# Altium schematic symbol library SCH - MCU - INFINEON XMC - INFINEON XMC4500F144.SchLib: 1 symbol
Pins are listed as number, name and electrical type; pins without a type are passive.

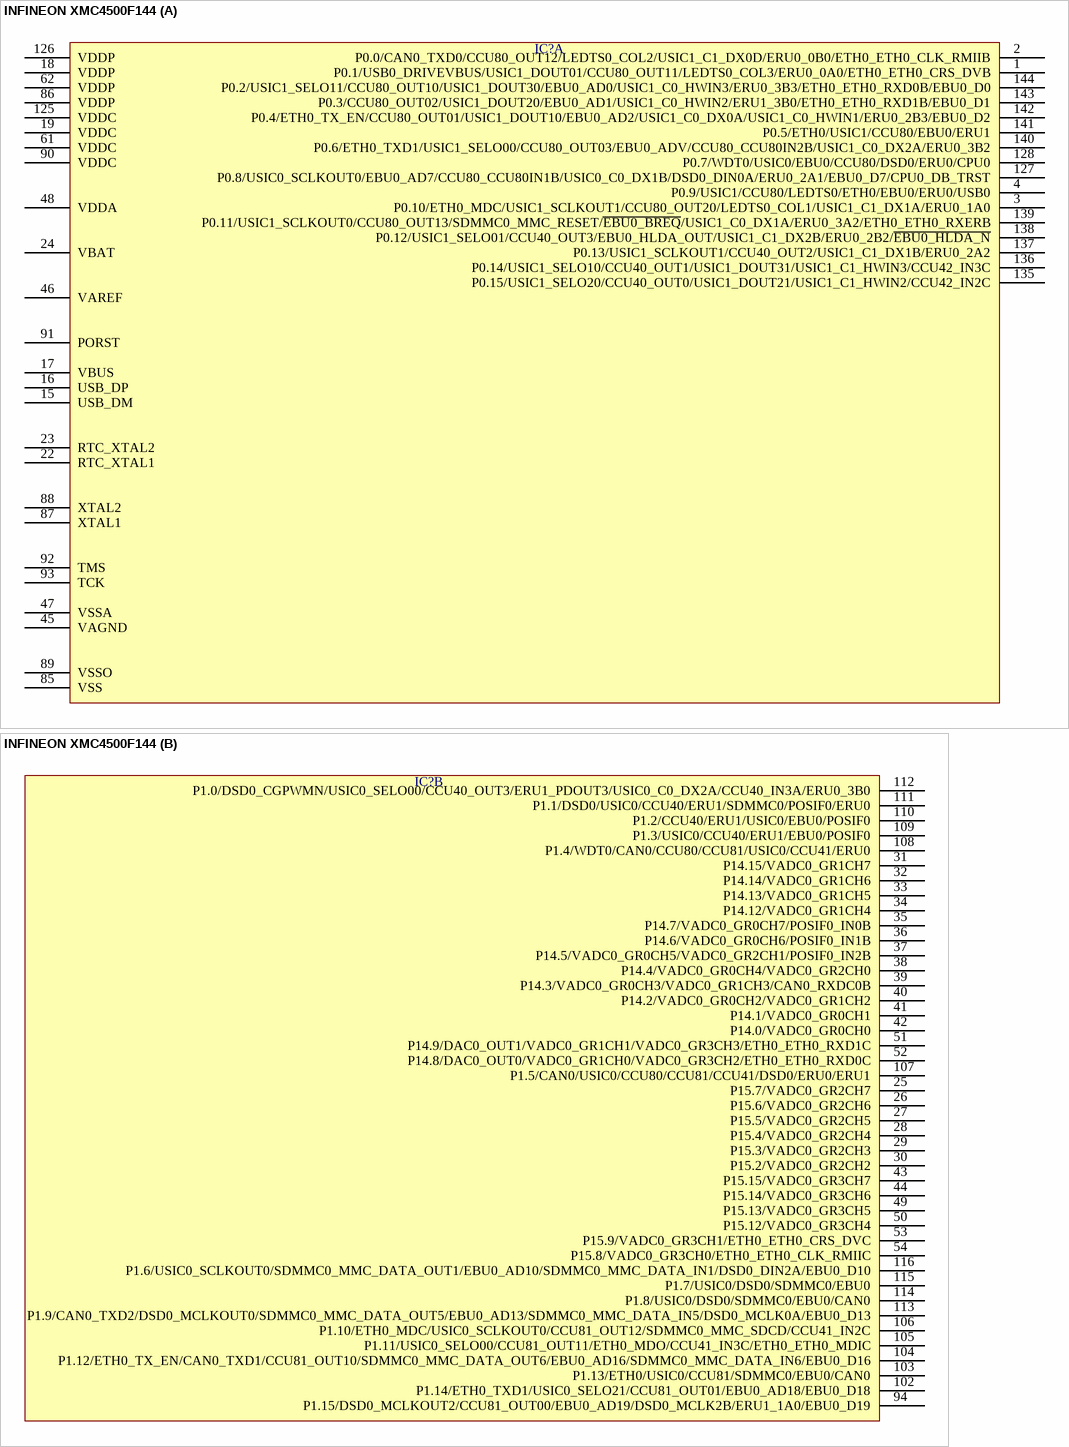
[diagram p0: symbol INFINEON XMC4500F144]

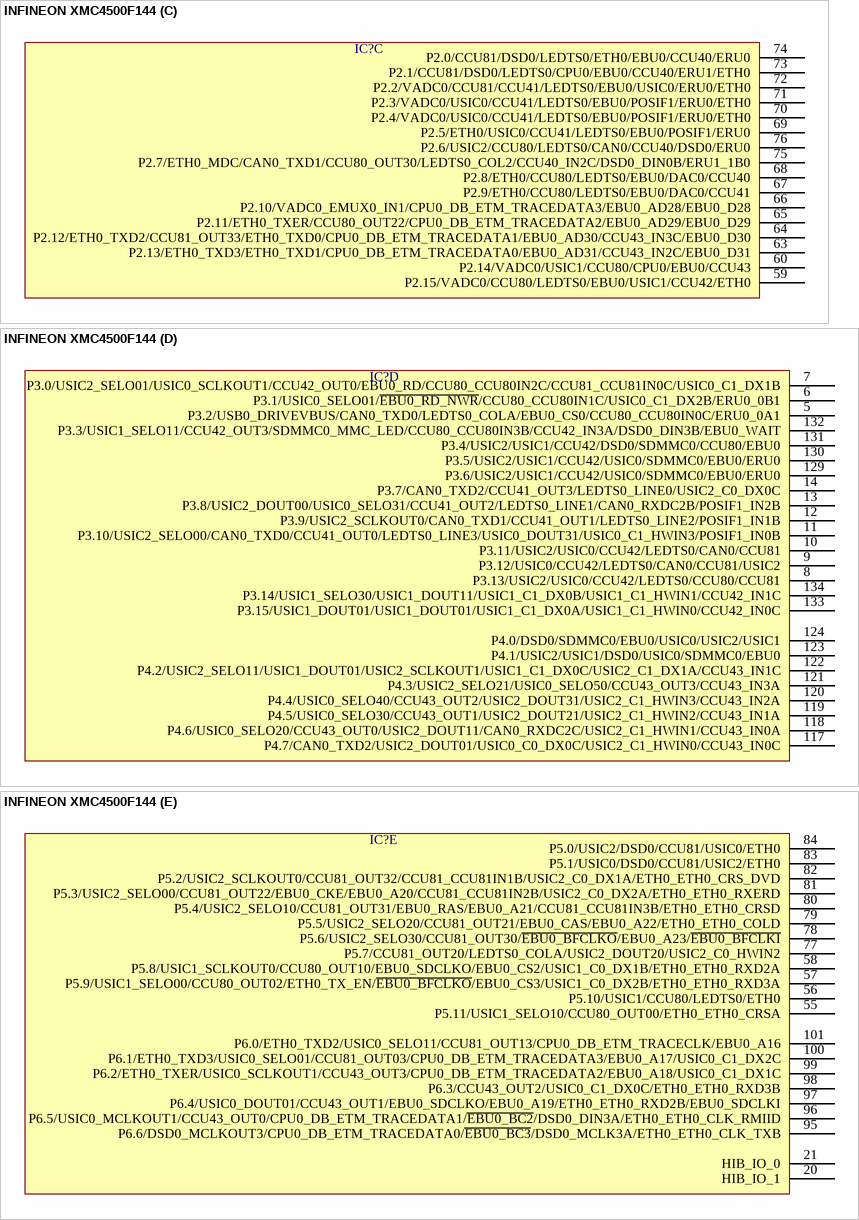
[diagram p1: symbol INFINEON XMC4500F144]

## INFINEON XMC4500F144
designator IC?  (value not drawn)
part A pins: 1 P0.1/USB0_DRIVEVBUS/USIC1_DOUT01/CCU80_OUT11/LEDTS0_COL3/ERU0_0A0/ETH0_ETH0_CRS_DVB, 2 P0.0/CAN0_TXD0/CCU80_OUT12/LEDTS0_COL2/USIC1_C1_DX0D/ERU0_0B0/ETH0_ETH0_CLK_RMIIB, 3 P0.10/ETH0_MDC/USIC1_SCLKOUT1/CCU80_OUT20/LEDTS0_COL1/USIC1_C1_DX1A/ERU0_1A0, 4 P0.9/USIC1/CCU80/LEDTS0/ETH0/EBU0/ERU0/USB0, 15 USB_DM, 16 USB_DP, 17 VBUS, 18 VDDP, 19 VDDC, 22 RTC_XTAL1, 23 RTC_XTAL2, 24 VBAT, 45 VAGND, 46 VAREF, 47 VSSA, 48 VDDA, 61 VDDC, 62 VDDP, 85 VSS, 86 VDDP, 87 XTAL1, 88 XTAL2, 89 VSSO, 90 VDDC, 91 PORST, 92 TMS, 93 TCK, 125 VDDC, 126 VDDP, 127 P0.8/USIC0_SCLKOUT0/EBU0_AD7/CCU80_CCU80IN1B/USIC0_C0_DX1B/DSD0_DIN0A/ERU0_2A1/EBU0_D7/CPU0_DB_TRST, 128 P0.7/WDT0/USIC0/EBU0/CCU80/DSD0/ERU0/CPU0, 135 P0.15/USIC1_SELO20/CCU40_OUT0/USIC1_DOUT21/USIC1_C1_HWIN2/CCU42_IN2C, 136 P0.14/USIC1_SELO10/CCU40_OUT1/USIC1_DOUT31/USIC1_C1_HWIN3/CCU42_IN3C, 137 P0.13/USIC1_SCLKOUT1/CCU40_OUT2/USIC1_C1_DX1B/ERU0_2A2, 138 P0.12/USIC1_SELO01/CCU40_OUT3/EBU0_HLDA_OUT/USIC1_C1_DX2B/ERU0_2B2/~{EBU0_HLDA_N}, 139 P0.11/USIC1_SCLKOUT0/CCU80_OUT13/SDMMC0_MMC_RESET/~{EBU0_BREQ}/USIC1_C0_DX1A/ERU0_3A2/ETH0_ETH0_RXERB, 140 P0.6/ETH0_TXD1/USIC1_SELO00/CCU80_OUT03/EBU0_ADV/CCU80_CCU80IN2B/USIC1_C0_DX2A/ERU0_3B2, 141 P0.5/ETH0/USIC1/CCU80/EBU0/ERU1, 142 P0.4/ETH0_TX_EN/CCU80_OUT01/USIC1_DOUT10/EBU0_AD2/USIC1_C0_DX0A/USIC1_C0_HWIN1/ERU0_2B3/EBU0_D2, 143 P0.3/CCU80_OUT02/USIC1_DOUT20/EBU0_AD1/USIC1_C0_HWIN2/ERU1_3B0/ETH0_ETH0_RXD1B/EBU0_D1, 144 P0.2/USIC1_SELO11/CCU80_OUT10/USIC1_DOUT30/EBU0_AD0/USIC1_C0_HWIN3/ERU0_3B3/ETH0_ETH0_RXD0B/EBU0_D0
part B pins: 25 P15.7/VADC0_GR2CH7, 26 P15.6/VADC0_GR2CH6, 27 P15.5/VADC0_GR2CH5, 28 P15.4/VADC0_GR2CH4, 29 P15.3/VADC0_GR2CH3, 30 P15.2/VADC0_GR2CH2, 31 P14.15/VADC0_GR1CH7, 32 P14.14/VADC0_GR1CH6, 33 P14.13/VADC0_GR1CH5, 34 P14.12/VADC0_GR1CH4, 35 P14.7/VADC0_GR0CH7/POSIF0_IN0B, 36 P14.6/VADC0_GR0CH6/POSIF0_IN1B, 37 P14.5/VADC0_GR0CH5/VADC0_GR2CH1/POSIF0_IN2B, 38 P14.4/VADC0_GR0CH4/VADC0_GR2CH0, 39 P14.3/VADC0_GR0CH3/VADC0_GR1CH3/CAN0_RXDC0B, 40 P14.2/VADC0_GR0CH2/VADC0_GR1CH2, 41 P14.1/VADC0_GR0CH1, 42 P14.0/VADC0_GR0CH0, 43 P15.15/VADC0_GR3CH7, 44 P15.14/VADC0_GR3CH6, 49 P15.13/VADC0_GR3CH5, 50 P15.12/VADC0_GR3CH4, 51 P14.9/DAC0_OUT1/VADC0_GR1CH1/VADC0_GR3CH3/ETH0_ETH0_RXD1C, 52 P14.8/DAC0_OUT0/VADC0_GR1CH0/VADC0_GR3CH2/ETH0_ETH0_RXD0C, 53 P15.9/VADC0_GR3CH1/ETH0_ETH0_CRS_DVC, 54 P15.8/VADC0_GR3CH0/ETH0_ETH0_CLK_RMIIC, 94 P1.15/DSD0_MCLKOUT2/CCU81_OUT00/EBU0_AD19/DSD0_MCLK2B/ERU1_1A0/EBU0_D19, 102 P1.14/ETH0_TXD1/USIC0_SELO21/CCU81_OUT01/EBU0_AD18/EBU0_D18, 103 P1.13/ETH0/USIC0/CCU81/SDMMC0/EBU0/CAN0, 104 P1.12/ETH0_TX_EN/CAN0_TXD1/CCU81_OUT10/SDMMC0_MMC_DATA_OUT6/EBU0_AD16/SDMMC0_MMC_DATA_IN6/EBU0_D16, 105 P1.11/USIC0_SELO00/CCU81_OUT11/ETH0_MDO/CCU41_IN3C/ETH0_ETH0_MDIC, 106 P1.10/ETH0_MDC/USIC0_SCLKOUT0/CCU81_OUT12/SDMMC0_MMC_SDCD/CCU41_IN2C, 107 P1.5/CAN0/USIC0/CCU80/CCU81/CCU41/DSD0/ERU0/ERU1, 108 P1.4/WDT0/CAN0/CCU80/CCU81/USIC0/CCU41/ERU0, 109 P1.3/USIC0/CCU40/ERU1/EBU0/POSIF0, 110 P1.2/CCU40/ERU1/USIC0/EBU0/POSIF0, 111 P1.1/DSD0/USIC0/CCU40/ERU1/SDMMC0/POSIF0/ERU0, 112 P1.0/DSD0_CGPWMN/USIC0_SELO00/CCU40_OUT3/ERU1_PDOUT3/USIC0_C0_DX2A/CCU40_IN3A/ERU0_3B0, 113 P1.9/CAN0_TXD2/DSD0_MCLKOUT0/SDMMC0_MMC_DATA_OUT5/EBU0_AD13/SDMMC0_MMC_DATA_IN5/DSD0_MCLK0A/EBU0_D13, 114 P1.8/USIC0/DSD0/SDMMC0/EBU0/CAN0, 115 P1.7/USIC0/DSD0/SDMMC0/EBU0, 116 P1.6/USIC0_SCLKOUT0/SDMMC0_MMC_DATA_OUT1/EBU0_AD10/SDMMC0_MMC_DATA_IN1/DSD0_DIN2A/EBU0_D10
part C pins: 59 P2.15/VADC0/CCU80/LEDTS0/EBU0/USIC1/CCU42/ETH0, 60 P2.14/VADC0/USIC1/CCU80/CPU0/EBU0/CCU43, 63 P2.13/ETH0_TXD3/ETH0_TXD1/CPU0_DB_ETM_TRACEDATA0/EBU0_AD31/CCU43_IN2C/EBU0_D31, 64 P2.12/ETH0_TXD2/CCU81_OUT33/ETH0_TXD0/CPU0_DB_ETM_TRACEDATA1/EBU0_AD30/CCU43_IN3C/EBU0_D30, 65 P2.11/ETH0_TXER/CCU80_OUT22/CPU0_DB_ETM_TRACEDATA2/EBU0_AD29/EBU0_D29, 66 P2.10/VADC0_EMUX0_IN1/CPU0_DB_ETM_TRACEDATA3/EBU0_AD28/EBU0_D28, 67 P2.9/ETH0/CCU80/LEDTS0/EBU0/DAC0/CCU41, 68 P2.8/ETH0/CCU80/LEDTS0/EBU0/DAC0/CCU40, 69 P2.5/ETH0/USIC0/CCU41/LEDTS0/EBU0/POSIF1/ERU0, 70 P2.4/VADC0/USIC0/CCU41/LEDTS0/EBU0/POSIF1/ERU0/ETH0, 71 P2.3/VADC0/USIC0/CCU41/LEDTS0/EBU0/POSIF1/ERU0/ETH0, 72 P2.2/VADC0/CCU81/CCU41/LEDTS0/EBU0/USIC0/ERU0/ETH0, 73 P2.1/CCU81/DSD0/LEDTS0/CPU0/EBU0/CCU40/ERU1/ETH0, 74 P2.0/CCU81/DSD0/LEDTS0/ETH0/EBU0/CCU40/ERU0, 75 P2.7/ETH0_MDC/CAN0_TXD1/CCU80_OUT30/LEDTS0_COL2/CCU40_IN2C/DSD0_DIN0B/ERU1_1B0, 76 P2.6/USIC2/CCU80/LEDTS0/CAN0/CCU40/DSD0/ERU0
part D pins: 5 P3.2/USB0_DRIVEVBUS/CAN0_TXD0/LEDTS0_COLA/EBU0_CS0/CCU80_CCU80IN0C/ERU0_0A1, 6 P3.1/USIC0_SELO01/~{EBU0_RD_NWR}/CCU80_CCU80IN1C/USIC0_C1_DX2B/ERU0_0B1, 7 P3.0/USIC2_SELO01/USIC0_SCLKOUT1/CCU42_OUT0/EBU0_RD/CCU80_CCU80IN2C/CCU81_CCU81IN0C/USIC0_C1_DX1B, 8 P3.13/USIC2/USIC0/CCU42/LEDTS0/CCU80/CCU81, 9 P3.12/USIC0/CCU42/LEDTS0/CAN0/CCU81/USIC2, 10 P3.11/USIC2/USIC0/CCU42/LEDTS0/CAN0/CCU81, 11 P3.10/USIC2_SELO00/CAN0_TXD0/CCU41_OUT0/LEDTS0_LINE3/USIC0_DOUT31/USIC0_C1_HWIN3/POSIF1_IN0B, 12 P3.9/USIC2_SCLKOUT0/CAN0_TXD1/CCU41_OUT1/LEDTS0_LINE2/POSIF1_IN1B, 13 P3.8/USIC2_DOUT00/USIC0_SELO31/CCU41_OUT2/LEDTS0_LINE1/CAN0_RXDC2B/POSIF1_IN2B, 14 P3.7/CAN0_TXD2/CCU41_OUT3/LEDTS0_LINE0/USIC2_C0_DX0C, 117 P4.7/CAN0_TXD2/USIC2_DOUT01/USIC0_C0_DX0C/USIC2_C1_HWIN0/CCU43_IN0C, 118 P4.6/USIC0_SELO20/CCU43_OUT0/USIC2_DOUT11/CAN0_RXDC2C/USIC2_C1_HWIN1/CCU43_IN0A, 119 P4.5/USIC0_SELO30/CCU43_OUT1/USIC2_DOUT21/USIC2_C1_HWIN2/CCU43_IN1A, 120 P4.4/USIC0_SELO40/CCU43_OUT2/USIC2_DOUT31/USIC2_C1_HWIN3/CCU43_IN2A, 121 P4.3/USIC2_SELO21/USIC0_SELO50/CCU43_OUT3/CCU43_IN3A, 122 P4.2/USIC2_SELO11/USIC1_DOUT01/USIC2_SCLKOUT1/USIC1_C1_DX0C/USIC2_C1_DX1A/CCU43_IN1C, 123 P4.1/USIC2/USIC1/DSD0/USIC0/SDMMC0/EBU0, 124 P4.0/DSD0/SDMMC0/EBU0/USIC0/USIC2/USIC1, 129 P3.6/USIC2/USIC1/CCU42/USIC0/SDMMC0/EBU0/ERU0, 130 P3.5/USIC2/USIC1/CCU42/USIC0/SDMMC0/EBU0/ERU0, 131 P3.4/USIC2/USIC1/CCU42/DSD0/SDMMC0/CCU80/EBU0, 132 P3.3/USIC1_SELO11/CCU42_OUT3/SDMMC0_MMC_LED/CCU80_CCU80IN3B/CCU42_IN3A/DSD0_DIN3B/EBU0_WAIT, 133 P3.15/USIC1_DOUT01/USIC1_DOUT01/USIC1_C1_DX0A/USIC1_C1_HWIN0/CCU42_IN0C, 134 P3.14/USIC1_SELO30/USIC1_DOUT11/USIC1_C1_DX0B/USIC1_C1_HWIN1/CCU42_IN1C
part E pins: 20 HIB_IO_1, 21 HIB_IO_0, 55 P5.11/USIC1_SELO10/CCU80_OUT00/ETH0_ETH0_CRSA, 56 P5.10/USIC1/CCU80/LEDTS0/ETH0, 57 P5.9/USIC1_SELO00/CCU80_OUT02/ETH0_TX_EN/~{EBU0_BFCLKO}/EBU0_CS3/USIC1_C0_DX2B/ETH0_ETH0_RXD3A, 58 P5.8/USIC1_SCLKOUT0/CCU80_OUT10/EBU0_SDCLKO/EBU0_CS2/USIC1_C0_DX1B/ETH0_ETH0_RXD2A, 77 P5.7/CCU81_OUT20/LEDTS0_COLA/USIC2_DOUT20/USIC2_C0_HWIN2, 78 P5.6/USIC2_SELO30/CCU81_OUT30/~{EBU0_BFCLKO}/EBU0_A23/~{EBU0_BFCLKI}, 79 P5.5/USIC2_SELO20/CCU81_OUT21/EBU0_CAS/EBU0_A22/ETH0_ETH0_COLD, 80 P5.4/USIC2_SELO10/CCU81_OUT31/EBU0_RAS/EBU0_A21/CCU81_CCU81IN3B/ETH0_ETH0_CRSD, 81 P5.3/USIC2_SELO00/CCU81_OUT22/EBU0_CKE/EBU0_A20/CCU81_CCU81IN2B/USIC2_C0_DX2A/ETH0_ETH0_RXERD, 82 P5.2/USIC2_SCLKOUT0/CCU81_OUT32/CCU81_CCU81IN1B/USIC2_C0_DX1A/ETH0_ETH0_CRS_DVD, 83 P5.1/USIC0/DSD0/CCU81/USIC2/ETH0, 84 P5.0/USIC2/DSD0/CCU81/USIC0/ETH0, 95 P6.6/DSD0_MCLKOUT3/CPU0_DB_ETM_TRACEDATA0/~{EBU0_BC3}/DSD0_MCLK3A/ETH0_ETH0_CLK_TXB, 96 P6.5/USIC0_MCLKOUT1/CCU43_OUT0/CPU0_DB_ETM_TRACEDATA1/~{EBU0_BC2}/DSD0_DIN3A/ETH0_ETH0_CLK_RMIID, 97 P6.4/USIC0_DOUT01/CCU43_OUT1/EBU0_SDCLKO/EBU0_A19/ETH0_ETH0_RXD2B/EBU0_SDCLKI, 98 P6.3/CCU43_OUT2/USIC0_C1_DX0C/ETH0_ETH0_RXD3B, 99 P6.2/ETH0_TXER/USIC0_SCLKOUT1/CCU43_OUT3/CPU0_DB_ETM_TRACEDATA2/EBU0_A18/USIC0_C1_DX1C, 100 P6.1/ETH0_TXD3/USIC0_SELO01/CCU81_OUT03/CPU0_DB_ETM_TRACEDATA3/EBU0_A17/USIC0_C1_DX2C, 101 P6.0/ETH0_TXD2/USIC0_SELO11/CCU81_OUT13/CPU0_DB_ETM_TRACECLK/EBU0_A16